# Altium footprint library CS_footprints.PcbLib: 90 footprints (part 4 of 6)
Each footprint in its own frame and in the unit in brackets; x right, y up, seen from the top. Pads: shape width x height; smd on the part's side, far side on the other; paste and mask are expansions set on the pad; w line width, h text height; cw(c..) or ccw(c..) is an arc to the next point about the centre after c.
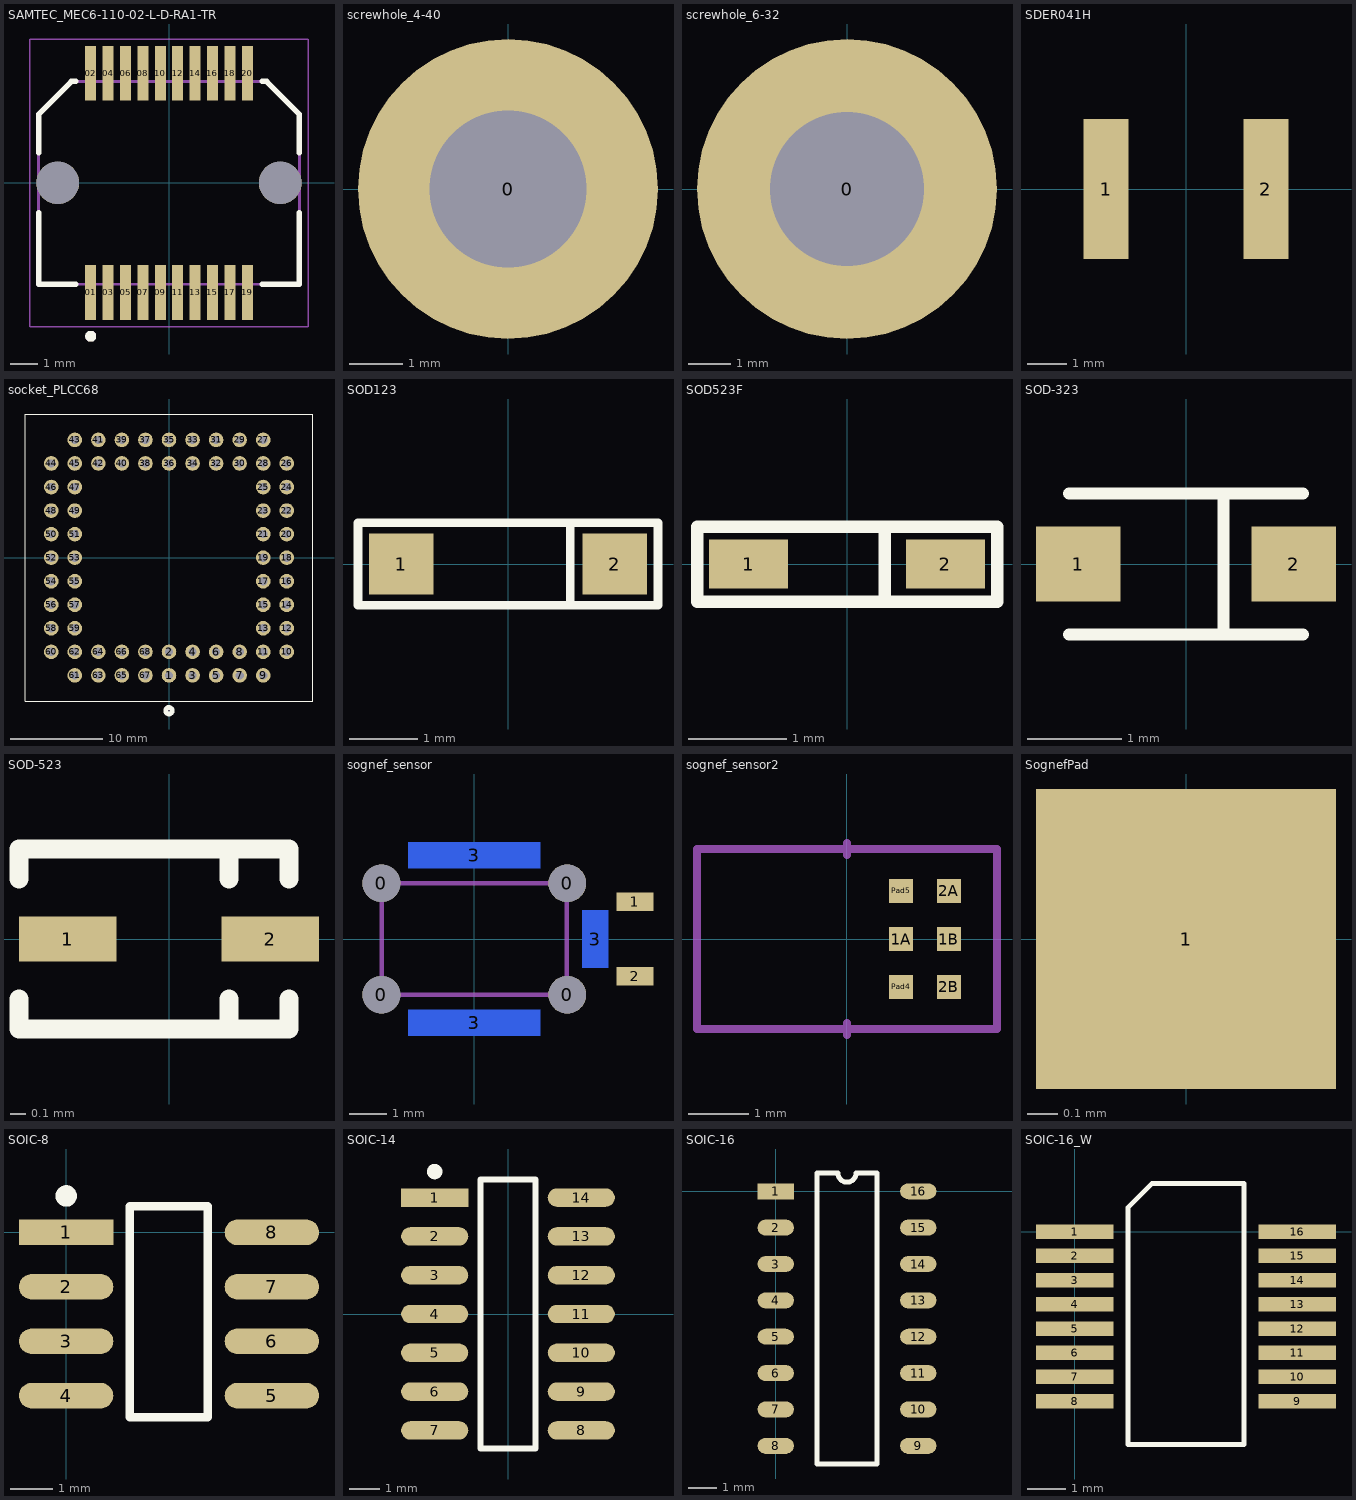
[diagram p3: the footprints below, top view; thin cyan lines are the x and y axes]

## SAMTEC_MEC6-110-02-L-D-RA1-TR [mm]
pads (22):
  rect 0.4x2 smd: 01(-2.857,-4) 02(-2.857,4) 03(-2.222,-4) 04(-2.222,4) 05(-1.587,-4) 06(-1.587,4) 07(-0.953,-4) 08(-0.953,4) 09(-0.318,-4) 10(-0.318,4) 11(0.318,-4) 12(0.318,4) 13(0.953,-4) 14(0.953,4) 15(1.587,-4) 16(1.587,4) 17(2.222,-4) 18(2.222,4) 19(2.857,-4) 20(2.857,4)
  round 1.55 hole 1.55 unplated: ""(-4.06,0) ""(4.06,0)
Top Overlay:
  circle w0.2: c-2.857,-5.6 r0.1
  lines w0.2: -4.76,-1.095 -4.76,-3.7 -3.407,-3.7 ; -4.76,1.095 -4.76,2.5 -3.56,3.7 -3.407,3.7 ; 3.407,-3.7 4.76,-3.7 4.76,-1.095 ; 3.407,3.7 3.56,3.7 4.76,2.5 4.76,1.095
3D Top:
  circle w0.2: c-2.857,-5.6 r0.1
  lines w0.1: -4.76,-3.7 4.76,-3.7 4.76,2.5 3.56,3.7 -3.56,3.7 -4.76,2.5 -4.76,-3.7
Courtyard Top:
  lines w0.05: -5.085,-5.25 5.085,-5.25 5.085,5.25 -5.085,5.25 -5.085,-5.25

## screwhole_4-40 [mil] "hole for a pan head 4-40 screw"
pads (1):
  round 221 hole 116 mask+0: 0(0,0)

## screwhole_6-32 [mil] "hole for a panhead 6-32 screw"
pads (1):
  round 280 hole 144 mask+0: 0(0,0)

## SDER041H [mm]
pads (2):
  rect 1.15x3.6 smd: 1(-2.05,0) 2(2.05,0)

## socket_PLCC68 [mil] "68-pin thru-hole socket for PLCC package"
pads (68):
  round 62 hole 35 unplated mask+0: 1(0,-500) 2(0,-400) 3(100,-500) 4(100,-400) 5(200,-500) 6(200,-400) 7(300,-500) 8(300,-400) 9(400,-500) 10(500,-400) 11(400,-400) 12(500,-300) 13(400,-300) 14(500,-200) 15(400,-200) 16(500,-100) 17(400,-100) 18(500,0) 19(400,0) 20(500,100) 21(400,100) 22(500,200) 23(400,200) 24(500,300) 25(400,300) 26(500,400) 27(400,500) 28(400,400) 29(300,500) 30(300,400) 31(200,500) 32(200,400) 33(100,500) 34(100,400) 35(0,500) 36(0,400) 37(-100,500) 38(-100,400) 39(-200,500) 40(-200,400) 41(-300,500) 42(-300,400) 43(-400,500) 44(-500,400) 45(-400,400) 46(-500,300) 47(-400,300) 48(-500,200) 49(-400,200) 50(-500,100) 51(-400,100) 52(-500,0) 53(-400,0) 54(-500,-100) 55(-400,-100) 56(-500,-200) 57(-400,-200) 58(-500,-300) 59(-400,-300) 60(-500,-400) 61(-400,-500) 62(-400,-400) 63(-300,-500) 64(-300,-400) 65(-200,-500) 66(-200,-400) 67(-100,-500) 68(-100,-400)
Top Overlay:
  circle w20: c0,-650 r13.92
  lines w5: -610.24,-610.16 -610.24,609.84 ; -610,-610.39 610,-610.39 ; -610,610.08 610,610.08 ; 610.24,-610.16 610.24,609.84

## SOD123 [mm]
pads (2):
  rect 0.95x0.9 smd mask+0: 1(-1.575,0) 2(1.575,0)
Top Overlay:
  lines w0.127: 0.914,-0.559 0.914,0.61 ; -2.21,-0.61 -2.21,0.61 2.21,0.61 2.21,-0.61 -2.21,-0.61

## SOD523F [mm]
pads (2):
  rect 0.8x0.5 smd mask+0: 1(-1,0) 2(1,0)
Top Overlay:
  lines w0.127: 0.381,-0.381 0.381,0.381 ; -1.524,-0.381 -1.524,0.381 1.524,0.381 1.524,-0.381 -1.524,-0.381

## SOD-323 [mm]
pads (2):
  rect 0.9x0.8 smd: 1(-1.15,0) 2(1.15,0)
Top Overlay:
  lines w0.127: -1.25,-0.75 1.25,-0.75 ; -1.25,0.75 1.25,0.75 ; 0.4,-0.7 0.4,0.7

## SOD-523 [mm] "surface mount diode"
pads (2):
  rect 0.65x0.3 smd: 1(-0.675,0) 2(0.675,0)
Top Overlay:
  lines w0.127: -1,-0.4 -1,-0.6 0.8,-0.6 0.8,-0.4 ; -1,0.4 -1,0.6 0.8,0.6 0.8,0.4 ; 0.4,-0.6 0.4,-0.4 ; 0.4,0.4 0.4,0.6

## sognef_sensor [mm] "sensor for sognef module"
pads (9):
  round 1.016 hole 1.016 unplated mask+0: 0(-2.5,-1.5) 0(-2.5,1.5) 0(2.5,-1.5) 0(2.5,1.5)
  rect 1x0.5 smd: 1(4.318,1) 2(4.318,-1)
  rect 3.556x0.7 smd far side mask+0: 3(0,-2.257) 3(0,2.257)
  rect 0.7x1.55 smd far side mask+0: 3(3.248,0)
Outline:
  lines w0.127: -2.489,-1.499 -2.489,1.499 2.489,1.499 2.489,-1.499 -2.489,-1.499
  text "cutout" at -1.905,-0.279 h0.76

## sognef_sensor2 [mm] "sensor for sognef module"
pads (6):
  rect 0.4x0.4 smd mask+0: 1A(0.9,0) 1B(1.7,0) 2A(1.7,0.8) 2B(1.7,-0.8) Pad4(0.9,-0.8) Pad5(0.9,0.8)
Assembly Top:
  lines w0.127: 0,-1.6 0,-1.4 ; 0,1.4 0,1.6 ; -2.5,-1.5 2.5,-1.5 2.5,1.5 -2.5,1.5 -2.5,-1.5

## SognefPad [mm]
pads (1):
  rect 1x1 smd: 1(0,0)

## SOIC-8 [mm] "SOIC, 8-Leads, Pitch 1.27mm, IPC Medium Density"
height 1.75
pads (8):
  rect 2.2x0.6 smd: 1(0,0)
  oval 2.2x0.6 smd: 2(0,-1.27) 3(0,-2.54) 4(0,-3.81) 5(4.8,-3.81) 6(4.8,-2.54) 7(4.8,-1.27) 8(4.8,0)
Top Overlay:
  circle w0.25: c0,0.85 r0.125
  lines w0.2: 1.486,-4.318 3.3,-4.318 3.3,0.61 1.486,0.61 1.486,-4.318

## SOIC-14 [mm] "SOIC, 14-Leads, Body 8.65x3.9mm, Pitch 1.27mm, IPC Medium Density"
height 1.75
pads (14):
  rect 2.2x0.6 smd: 1(-2.4,3.81)
  oval 2.2x0.6 smd: 2(-2.4,2.54) 3(-2.4,1.27) 4(-2.4,0) 5(-2.4,-1.27) 6(-2.4,-2.54) 7(-2.4,-3.81) 8(2.4,-3.81) 9(2.4,-2.54) 10(2.4,-1.27) 11(2.4,0) 12(2.4,1.27) 13(2.4,2.54) 14(2.4,3.81)
Top Overlay:
  circle w0.25: c-2.4,4.66 r0.125
  lines w0.2: -0.9,-4.4 -0.9,4.4 0.9,4.4 0.9,-4.4 -0.9,-4.4

## SOIC-16 [mil]
pads (16):
  rect 50x22 smd: 1(0,0)
  oval 50x22 smd: 2(0,-50) 3(0,-100) 4(0,-150) 5(0,-200) 6(0,-250) 7(0,-300) 8(0,-350) 9(196,-350) 10(196,-300) 11(196,-250) 12(196,-200) 13(196,-150) 14(196,-100) 15(196,-50) 16(196,0)
Top Overlay:
  lines w7: 57,-375 139,-375 139,25 110.5,25 cw(c98,25) 85.5,25 57,25 57,-375

## SOIC-16_W [mil] "SOIC 16-pin wide body"
pads (16):
  rect 80x15 smd: 1(0,0) 2(0,-25) 3(0,-50) 4(0,-75) 5(0,-100) 6(0,-125) 7(0,-150) 8(0,-175) 9(230,-175) 10(230,-150) 11(230,-125) 12(230,-100) 13(230,-75) 14(230,-50) 15(230,-25) 16(230,0)
Top Overlay:
  lines w5: 55,-220 55,25 80,50 175,50 175,-220 55,-220